# Altium footprint library Header-2.54mm-2X10-M-V.PcbLib: 1 footprints
Each footprint in its own frame and in the unit in brackets; x right, y up, seen from the top. Pads: shape width x height; smd on the part's side, far side on the other; paste and mask are expansions set on the pad; w line width, h text height; cw(c..) or ccw(c..) is an arc to the next point about the centre after c.
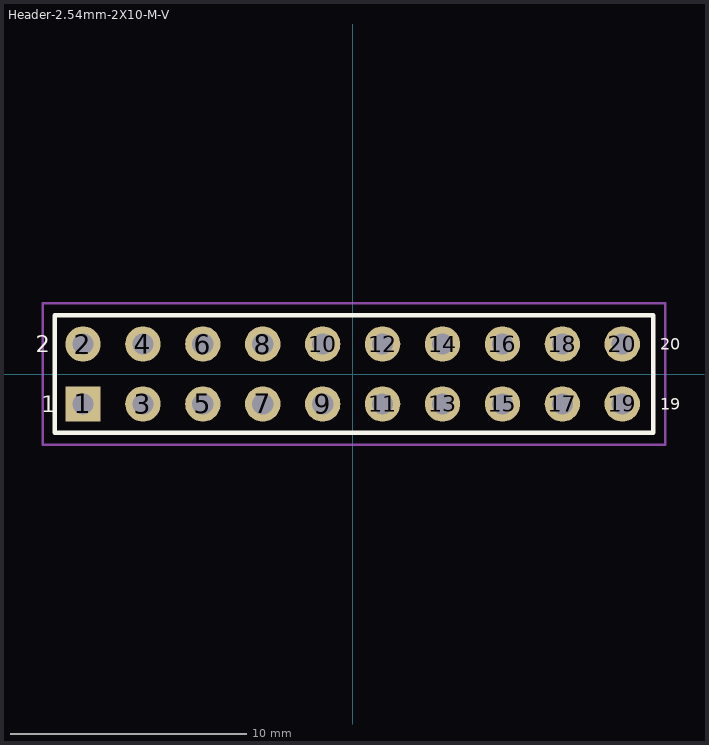
[diagram p0: the footprint, top view; thin cyan lines are the x and y axes]

## Header-2.54mm-2X10-M-V [mm]
pads (20):
  rect 1.5x1.5 hole 0.9: 1(-11.43,-1.27)
  round 1.5 hole 0.9: 2(-11.43,1.27) 3(-8.89,-1.27) 4(-8.89,1.27) 5(-6.35,-1.27) 6(-6.35,1.27) 7(-3.81,-1.27) 8(-3.81,1.27) 9(-1.27,-1.27) 10(-1.27,1.27) 11(1.27,-1.27) 12(1.27,1.27) 13(3.81,-1.27) 14(3.81,1.27) 15(6.35,-1.27) 16(6.35,1.27) 17(8.89,-1.27) 18(8.89,1.27) 19(11.43,-1.27) 20(11.43,1.27)
Top Overlay:
  lines w0.2: -12.63,-2.495 -12.63,2.495 12.745,2.495 12.745,-2.495 -12.63,-2.495
  text "2" at -13.43,0.93 h0.7
  text "1" at -13.205,-1.62 h0.7
  text "19" at 13.045,-1.52 h0.5
  text "20" at 13.045,1.03 h0.5
Top Courtyard:
  lines w0.1: -13.13,-2.995 -13.13,2.995 13.245,2.995 13.245,-2.995 -12.63,-2.995 -13.13,-2.995
3D body "TSW-110-07-G-D.stp": height 8.38, standoff -2.54, extent -12.655,-2.56 12.745,2.52